# EAGLE library part YMF278B-F (library Yamaha YMF278B-F)
OPL4
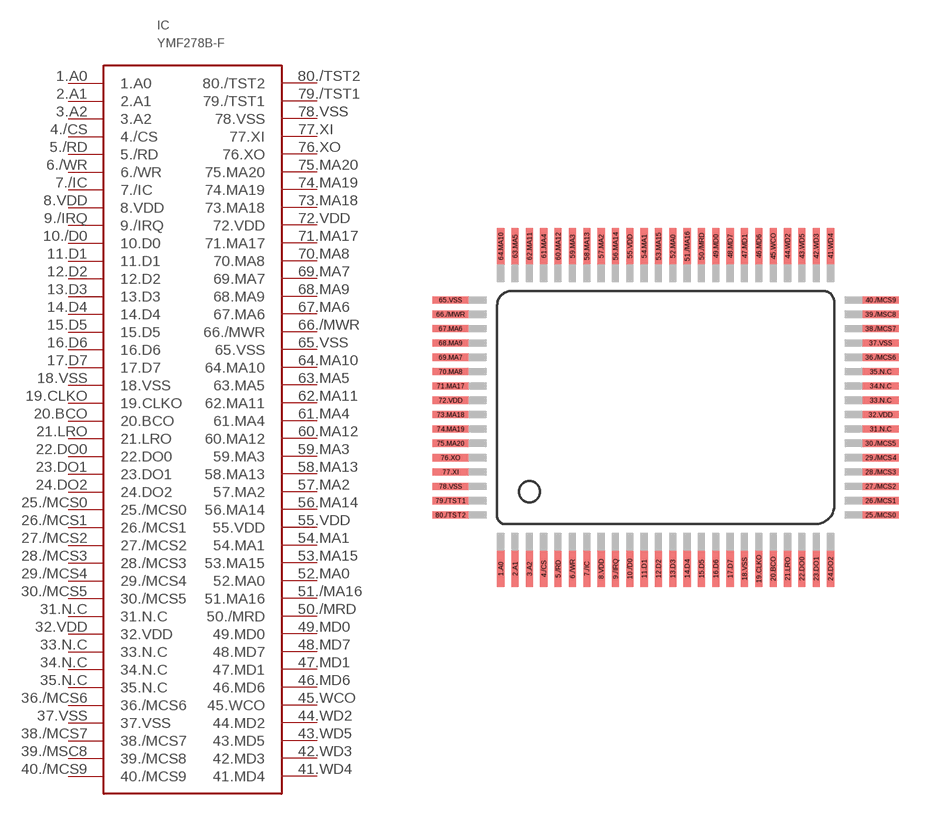
[diagram p0: symbol with the pads of 80-QFP; footprint 80-QFP]

Designator prefix IC

## YMF278B-F  [80-QFP]
1.A0  1.A0  in
2.A1  2.A1  in
3.A2  3.A2  in
4./CS  4./CS  in
5./RD  5./RD  in
6./WR  6./WR  in
7./IC  7./IC  in
8.VDD  8.VDD
9./IRQ  9./IRQ
10./D0  10.D0
11.D1  11.D1
12.D2  12.D2
13.D3  13.D3
14.D4  14.D4
15.D5  15.D5
16.D6  16.D6
17.D7  17.D7
18.VSS  18.VSS
19.CLKO  19.CLKO  out
20.BCO  20.BCO  out
21.LRO  21.LRO  out
22.DO0  22.DO0  out
23.DO1  23.DO1  out
24.DO2  24.DO2  out
25./MCS0  25./MCS0  out
26./MCS1  26./MCS1  out
27./MCS2  27./MCS2  out
28./MCS3  28./MCS3  out
29./MCS4  29./MCS4  out
30./MCS5  30./MCS5  out
31.N.C  31.N.C  nc
32.VDD  32.VDD
33.N.C  33.N.C  nc
34.N.C  34.N.C  nc
35.N.C  35.N.C  nc
36./MCS6  36./MCS6  out
37.VSS  37.VSS
38./MCS7  38./MCS7  out
39./MSC8  39./MCS8  out
40./MCS9  40./MCS9  out
41.WD4  41.MD4
42.WD3  42.MD3
43.WD5  43.MD5
44.WD2  44.MD2
45.WCO  45.WCO  out
46.MD6  46.MD6
47.MD1  47.MD1
48.MD7  48.MD7
49.MD0  49.MD0
50./MRD  50./MRD  out
51./MA16  51.MA16  out
52.MA0  52.MA0  out
53.MA15  53.MA15  out
54.MA1  54.MA1  out
55.VDD  55.VDD
56.MA14  56.MA14  out
57.MA2  57.MA2  out
58.MA13  58.MA13  out
59.MA3  59.MA3  out
60.MA12  60.MA12  out
61.MA4  61.MA4  out
62.MA11  62.MA11  out
63.MA5  63.MA5  out
64.MA10  64.MA10  out
65.VSS  65.VSS
66./MWR  66./MWR  out
67.MA6  67.MA6  out
68.MA9  68.MA9  out
69.MA7  69.MA7  out
70.MA8  70.MA8  out
71.MA17  71.MA17  out
72.VDD  72.VDD
73.MA18  73.MA18  out
74.MA19  74.MA19  out
75.MA20  75.MA20  out
76.XO  76.XO  out
77.XI  77.XI  in
78.VSS  78.VSS
79./TST1  79./TST1  in
80./TST2  80./TST2  in

## Footprint 80-QFP (pad centres in mm)
80-QFP Package
smd 0.4 x 2: 1.A0 -9.1,-9.3; 2.A1 -8.3,-9.3; 3.A2 -7.5,-9.3; 4./CS -6.7,-9.3; 5./RD -5.9,-9.3; 6./WR -5.1,-9.3; 7./IC -4.3,-9.3; 8.VDD -3.5,-9.3; 9./IRQ -2.7,-9.3; 10./D0 -1.9,-9.3; 11.D1 -1.1,-9.3; 12.D2 -0.3,-9.3; 13.D3 0.5,-9.3; 14.D4 1.3,-9.3; 15.D5 2.1,-9.3; 16.D6 2.9,-9.3; 17.D7 3.7,-9.3; 18.VSS 4.5,-9.3; 19.CLKO 5.3,-9.3; 20.BCO 6.1,-9.3; 21.LRO 6.9,-9.3; 22.DO0 7.7,-9.3; 23.DO1 8.5,-9.3; 24.DO2 9.3,-9.3; 41.WD4 9.3,8.7; 42.WD3 8.5,8.7; 43.WD5 7.7,8.7; 44.WD2 6.9,8.7; 45.WCO 6.1,8.7; 46.MD6 5.3,8.7; 47.MD1 4.5,8.7; 48.MD7 3.7,8.7; 49.MD0 2.9,8.7; 50./MRD 2.1,8.7; 51./MA16 1.3,8.7; 52.MA0 0.5,8.7; 53.MA15 -0.3,8.7; 54.MA1 -1.1,8.7; 55.VDD -1.9,8.7; 56.MA14 -2.7,8.7; 57.MA2 -3.5,8.7; 58.MA13 -4.3,8.7; 59.MA3 -5.1,8.7; 60.MA12 -5.9,8.7; 61.MA4 -6.7,8.7; 62.MA11 -7.5,8.7; 63.MA5 -8.3,8.7; 64.MA10 -9.1,8.7
smd 2 x 0.4: 25./MCS0 12.1,-6.3; 26./MCS1 12.1,-5.5; 27./MCS2 12.1,-4.7; 28./MCS3 12.1,-3.9; 29./MCS4 12.1,-3.1; 30./MCS5 12.1,-2.3; 31.N.C 12.1,-1.5; 32.VDD 12.1,-0.7; 33.N.C 12.1,0.1; 34.N.C 12.1,0.9; 35.N.C 12.1,1.7; 36./MCS6 12.1,2.5; 37.VSS 12.1,3.3; 38./MCS7 12.1,4.1; 39./MSC8 12.1,4.9; 40./MCS9 12.1,5.7; 65.VSS -11.9,5.7; 66./MWR -11.9,4.9; 67.MA6 -11.9,4.1; 68.MA9 -11.9,3.3; 69.MA7 -11.9,2.5; 70.MA8 -11.9,1.7; 71.MA17 -11.9,0.9; 72.VDD -11.9,0.1; 73.MA18 -11.9,-0.7; 74.MA19 -11.9,-1.5; 75.MA20 -11.9,-2.3; 76.XO -11.9,-3.1; 77.XI -11.9,-3.9; 78.VSS -11.9,-4.7; 79./TST1 -11.9,-5.5; 80./TST2 -11.9,-6.3